# Altium footprint library USB4125-GF-A.PcbLib: 1 footprints
Each footprint in its own frame and in the unit in brackets; x right, y up, seen from the top. Pads: shape width x height; smd on the part's side, far side on the other; paste and mask are expansions set on the pad; w line width, h text height; cw(c..) or ccw(c..) is an arc to the next point about the centre after c.
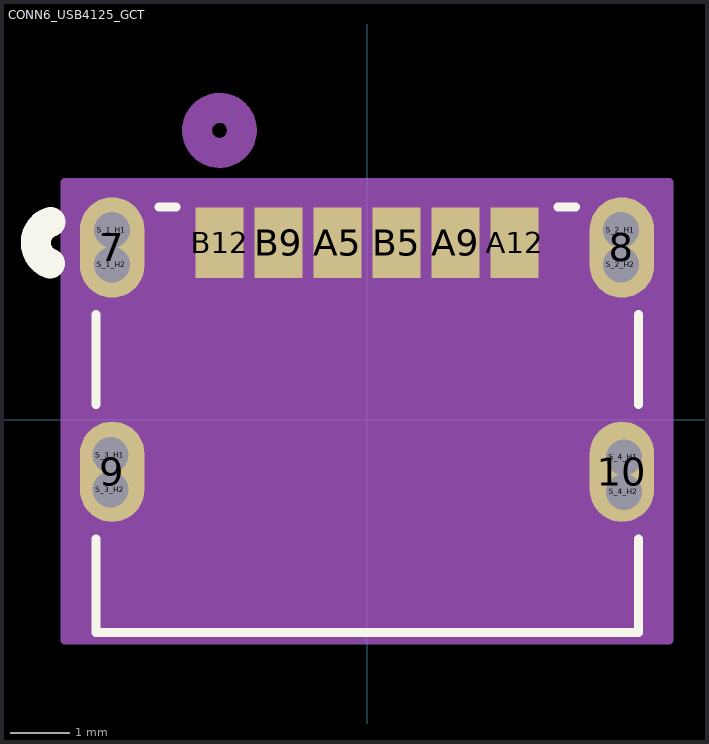
[diagram p0: the footprint, top view; thin cyan lines are the x and y axes]

## CONN6_USB4125_GCT [mil]
pads (18):
  oval 43x67 smd paste-33.5 mask-33.5: 7(-170.08,114.95) 8(170.08,114.95) 9(-170.08,-34.65) 10(170.08,-34.65)
  rect 32x47 smd paste+0 mask+0: A5(-19.68,118.1) A9(59.05,118.1) A12(98.42,118.1) B5(19.68,118.1) B9(-59.05,118.1) B12(-98.42,118.1)
  round 24 hole 24 unplated paste+0 mask+0: S_1_H1(-170.19,126.61) S_1_H2(-170.19,103.61) S_2_H1(169.36,126.61) S_2_H2(169.36,103.61) S_3_H1(-171.22,-23.62) S_3_H2(-171.22,-46.62) S_4_H1(171.41,-25.16) S_4_H2(171.41,-48.16)
Top Overlay:
  lines w6: -181,-79.49 -181,-142 181,-142 181,-79.49 ; -181,10.18 -181,70.12 ; -138.92,142 -127.52,142 ; 127.52,142 138.92,142 ; 181,10.18 181,70.12
  lines w20: -211.68,104.22 cw(c-206,118.1) -211.36,132.11
  text ".Designator" at -137.5,93.1 h50
Bottom Overlay:
  circle w20: c-206,118.1 r15
Mechanical 13:
  circle w20: c-98.42,193.1 r15
  lines w1: -176,-137 176,-137 176,137 -176,137 -176,-137
  text ".Designator" at -137.5,93.1 h50
Mechanical 15:
  region: 201.58,158.45 -201.58,158.45 -201.58,-147 201.58,-147
  lines w6: -201.58,-147 -201.58,158.45 201.58,158.45 201.58,-147 -201.58,-147
Multi-Layer:
  lines w24: -171.22,-46.62 -171.22,-23.62 ; -170.19,103.61 -170.19,126.61 ; 169.36,103.61 169.36,126.61 ; 171.41,-48.16 171.41,-25.16